# EAGLE library part AM29LV400R (library am29-memory)
4-Megabit FLASH MEMORY (512 K x 8 bit/256 K x 16 bit) CMOS 3 V-only boot sector flash memory
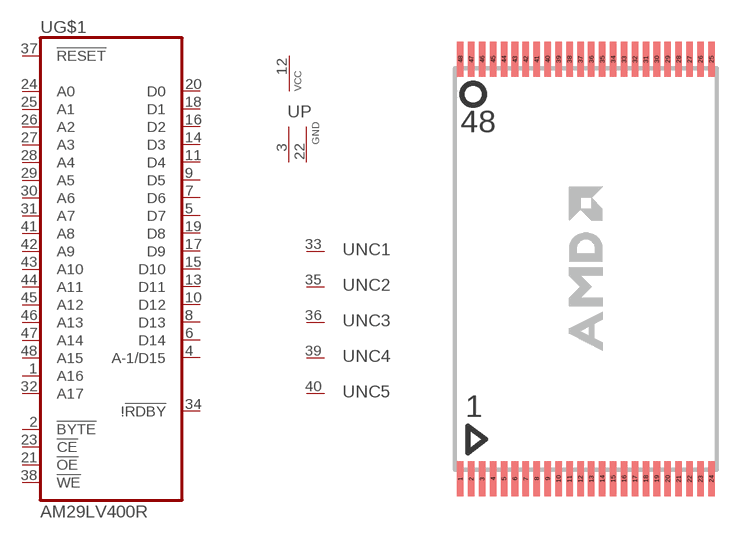
[diagram p6: symbol with the pads of RTSOP48; footprint RTSOP48]

Designator prefix U; gates G$1=29LV400 P=VCC2GND NC1=NC NC2=NC NC3=NC NC4=NC NC5=NC

## AM29LV400R  [RTSOP48]
1  G$1:A16  in
2  G$1:!BYTE!  in
3  P:GND  pwr
4  G$1:A-1/D15  hiz
5  G$1:D7  hiz
6  G$1:D14  hiz
7  G$1:D6  hiz
8  G$1:D13  hiz
9  G$1:D5  hiz
10  G$1:D12  hiz
11  G$1:D4  hiz
12  P:VCC  pwr
13  G$1:D11  hiz
14  G$1:D3  hiz
15  G$1:D10  hiz
16  G$1:D2  hiz
17  G$1:D9  hiz
18  G$1:D1  hiz
19  G$1:D8  hiz
20  G$1:D0  hiz
21  G$1:!OE!  in
22  P:GND  pwr
23  G$1:!CE!  in
24  G$1:A0  in
25  G$1:A1  in
26  G$1:A2  in
27  G$1:A3  in
28  G$1:A4  in
29  G$1:A5  in
30  G$1:A6  in
31  G$1:A7  in
32  G$1:A17  in
33  NC1:NC  nc
34  G$1:!!RDBY!  out
35  NC2:NC  nc
36  NC3:NC  nc
37  G$1:!RESET!  in
38  G$1:!WE!  in
39  NC4:NC  nc
40  NC5:NC  nc
41  G$1:A8  in
42  G$1:A9  in
43  G$1:A10  in
44  G$1:A11  in
45  G$1:A12  in
46  G$1:A13  in
47  G$1:A14  in
48  G$1:A15  in

## Footprint RTSOP48 (pad centres in mm)
Reverse TSOP48
smd 0.3 x 1.6: 1 -5.75,-9.6; 2 -5.25,-9.6; 3 -4.75,-9.6; 4 -4.25,-9.6; 5 -3.75,-9.6; 6 -3.25,-9.6; 7 -2.75,-9.6; 8 -2.25,-9.6; 9 -1.75,-9.6; 10 -1.25,-9.6; 11 -0.75,-9.6; 12 -0.25,-9.6; 13 0.25,-9.6; 14 0.75,-9.6; 15 1.25,-9.6; 16 1.75,-9.6; 17 2.25,-9.6; 18 2.75,-9.6; 19 3.25,-9.6; 20 3.75,-9.6; 21 4.25,-9.6; 22 4.75,-9.6; 23 5.25,-9.6; 24 5.75,-9.6; 25 5.75,9.6; 26 5.25,9.6; 27 4.75,9.6; 28 4.25,9.6; 29 3.75,9.6; 30 3.25,9.6; 31 2.75,9.6; 32 2.25,9.6; 33 1.75,9.6; 34 1.25,9.6; 35 0.75,9.6; 36 0.25,9.6; 37 -0.25,9.6; 38 -0.75,9.6; 39 -1.25,9.6; 40 -1.75,9.6; 41 -2.25,9.6; 42 -2.75,9.6; 43 -3.25,9.6; 44 -3.75,9.6; 45 -4.25,9.6; 46 -4.75,9.6; 47 -5.25,9.6; 48 -5.75,9.6